# Altium integrated library Cypress PSoC 1.IntLib: 188 symbols (part 4 of 11)
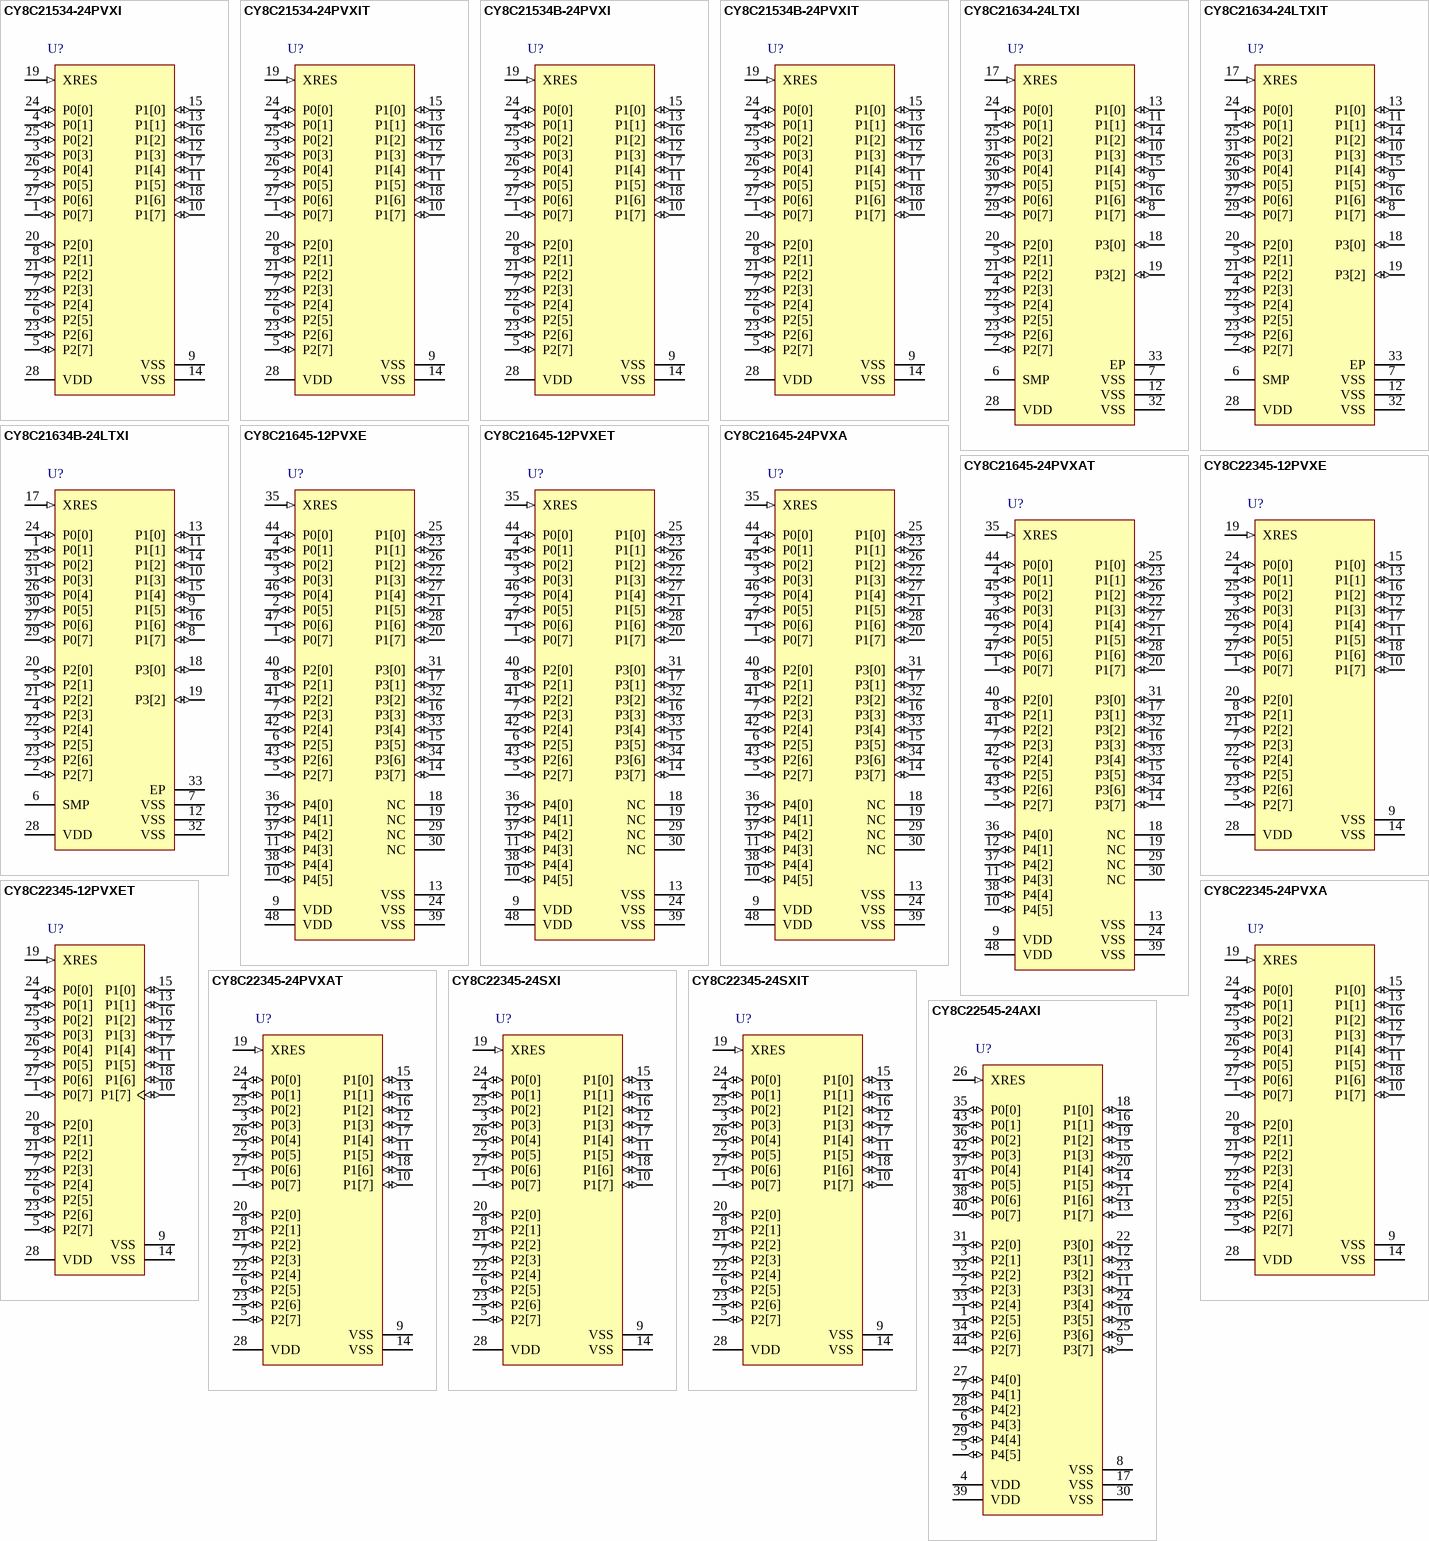
[diagram p14: symbols CY8C21534-24PVXI to CY8C22545-24AXI]

## CY8C21534B-24PVXI
designator U?
PSoC Programmable System-on-Chip, M8C, 20 CapSense IO, 2.4 to 5.25 V, 28-Pin SSOP (PVX28); Manufacturer: Cypress; PartNumber: CY8C21534B-24PVXI; Comm. Interface: I2C-SPI-UART; No. of CapSense IO: 20; Flash (KB): 8; Max. Operating Voltage (V): 5.25; Min. Operating Voltage (V): 2.4; No. of Programmable Digital Blocks: 3; Proximity Sensing: Y; PWMs: HW; Rating: I; Sliders: 2; DatasheetVersion: Rev. *D; PackageVersion: *C; PackageReference: PVX28; PackageDescription: 28-Pin SSOP, Body 10.2 x 5.3 mm, Pitch 0.65 mm; Supplier 1: Digi-Key; Supplier Part Number 1: CY8C21534B-24PVXI-ND; Supplier 2: Newark; Supplier Part Number 2: 58T0049; Supplier 3: Mouser; Supplier Part Number 3: 727-CY8C21534B24PVXI; CPU Core: M8C; Max. Operating Temp. (°C): 85; Min. Operating Temp. (°C): -40; No. of GPIOs: 20; RoHS: Pb-Free; SmartSense Enabled: Y; Mounting Technology: Surface Mount; ComponentLink1Description: Manufacturer URL; ComponentLink1URL: http://www.cypress.com/; ComponentLink2Description: Datasheet; ComponentLink2URL: http://www.cypress.com/?docID=48203; ComponentLink3Description: Package Specification; ComponentLink3URL: http://www.cypress.com/?docID=1371; ComponentLink4Description: Product URL; ComponentLink4URL: http://www.cypress.com/?rID=49125
footprint CYP-PVX28_N (SOP, 28-Leads, Body 10.2x5.3mm, Pitch 0.65mm, IPC Medium Density)
footprint CYP-PVX28_L (SOP, 28-Leads, Body 10.2x5.3mm, Pitch 0.65mm, IPC High Density)
footprint CYP-PVX28_M (SOP, 28-Leads, Body 10.2x5.3mm, Pitch 0.65mm, IPC Low Density)
pins: 1 P0[7] (io) "Analog column mux input", 2 P0[5] (io) "Analog column mux input and column output", 3 P0[3] (io) "Analog column mux input and column output, integrating input", 4 P0[1] (io) "Analog column mux input, integrating input", 5 P2[7] (io), 6 P2[5] (io), 7 P2[3] (io) "Direct switched capacitor block input", 8 P2[1] (io) "Direct switched capacitor block input", 9 VSS (power) "Ground connection", 10 P1[7] (io) "I2C SCL", 11 P1[5] (io) "I2C SDA", 12 P1[3] (io), 13 P1[1] (io) "I2C SCL, ISSP-SCLK", 14 VSS (power) "Ground connection", 15 P1[0] (io) "I2C SDA, ISSP-SDATA", 16 P1[2] (io), 17 P1[4] (io) "Optional external clock input (EXTCLK)", 18 P1[6] (io), 19 XRES (in) "Active high external reset with internal pull-down", 20 P2[0] (io) "Direct switched capacitor block input", 21 P2[2] (io) "Direct switched capacitor block input", 22 P2[4] (io), 23 P2[6] (io), 24 P0[0] (io) "Analog column mux input", 25 P0[2] (io) "Analog column mux input", 26 P0[4] (io) "Analog column mux input", 27 P0[6] (io) "Analog column mux input", 28 VDD (power) "Supply voltage"

## CY8C21534B-24PVXIT
designator U?
PSoC Programmable System-on-Chip, M8C, 20 CapSense IO, 2.4 to 5.25 V, 28-Pin SSOP (PVX28), Tape and Reel; Manufacturer: Cypress; PartNumber: CY8C21534B-24PVXIT; Comm. Interface: I2C-SPI-UART; No. of CapSense IO: 20; Flash (KB): 8; Max. Operating Voltage (V): 5.25; Min. Operating Voltage (V): 2.4; No. of Programmable Digital Blocks: 3; Proximity Sensing: Y; PWMs: HW; Rating: I; Sliders: 2; DatasheetVersion: Rev. *D; PackageVersion: *C; PackageReference: PVX28; PackageDescription: 28-Pin SSOP, Body 10.2 x 5.3 mm, Pitch 0.65 mm; Supplier 1: Newark; Supplier Part Number 1: 05W7570; Supplier 2: Mouser; Supplier Part Number 2: 727-8C21534B-24PVXIT; CPU Core: M8C; Max. Operating Temp. (°C): 85; Min. Operating Temp. (°C): -40; No. of GPIOs: 20; RoHS: Pb-Free; SmartSense Enabled: Y; Mounting Technology: Surface Mount; ComponentLink1Description: Manufacturer URL; ComponentLink1URL: http://www.cypress.com/; ComponentLink2Description: Datasheet; ComponentLink2URL: http://www.cypress.com/?docID=48203; ComponentLink3Description: Package Specification; ComponentLink3URL: http://www.cypress.com/?docID=1371; ComponentLink4Description: Product URL; ComponentLink4URL: http://www.cypress.com/?rID=49125
footprint CYP-PVX28_N (SOP, 28-Leads, Body 10.2x5.3mm, Pitch 0.65mm, IPC Medium Density)
footprint CYP-PVX28_L (SOP, 28-Leads, Body 10.2x5.3mm, Pitch 0.65mm, IPC High Density)
footprint CYP-PVX28_M (SOP, 28-Leads, Body 10.2x5.3mm, Pitch 0.65mm, IPC Low Density)
pins: 1 P0[7] (io) "Analog column mux input", 2 P0[5] (io) "Analog column mux input and column output", 3 P0[3] (io) "Analog column mux input and column output, integrating input", 4 P0[1] (io) "Analog column mux input, integrating input", 5 P2[7] (io), 6 P2[5] (io), 7 P2[3] (io) "Direct switched capacitor block input", 8 P2[1] (io) "Direct switched capacitor block input", 9 VSS (power) "Ground connection", 10 P1[7] (io) "I2C SCL", 11 P1[5] (io) "I2C SDA", 12 P1[3] (io), 13 P1[1] (io) "I2C SCL, ISSP-SCLK", 14 VSS (power) "Ground connection", 15 P1[0] (io) "I2C SDA, ISSP-SDATA", 16 P1[2] (io), 17 P1[4] (io) "Optional external clock input (EXTCLK)", 18 P1[6] (io), 19 XRES (in) "Active high external reset with internal pull-down", 20 P2[0] (io) "Direct switched capacitor block input", 21 P2[2] (io) "Direct switched capacitor block input", 22 P2[4] (io), 23 P2[6] (io), 24 P0[0] (io) "Analog column mux input", 25 P0[2] (io) "Analog column mux input", 26 P0[4] (io) "Analog column mux input", 27 P0[6] (io) "Analog column mux input", 28 VDD (power) "Supply voltage"

## CY8C21634-24LTXI
designator U?
PSoC Programmable System-on-Chip, 8 KB Flash, 26 GPIOs, 2.40 to 5.25 V, 32-Pin Sawn QFN (LT32B); Manufacturer: Cypress; PartNumber: CY8C21634-24LTXI; Comm. Interface: I2C-SPI-UART; CPU Core: M8C; No. of CapSense IO: 22; Flash (KB): 8; Max. Operating Voltage (V): 5.25; Min. Operating Voltage (V): 2.4; No. of GPIOs: 26; No. of Programmable Digital Blocks: 3; Proximity Sensing: Y; PWMs: HW; Rating: I; Sliders: 4; SmartSense Enabled: N; DatasheetVersion: Rev. *AD; PackageReference: LTX32; PackageDescription: 32-Pin Swan QFN, Body 5 x 5 mm, Pitch 0.5 mm; Supplier 1: Digi-Key; Supplier Part Number 1: 428-2884-ND; Supplier 2: Newark; Supplier Part Number 2: 07R8379; Supplier 3: Mouser; Supplier Part Number 3: 727-CY8C21634-24LTXI; Max. Operating Temp. (°C): 85; Min. Operating Temp. (°C): -40; RoHS: Pb-Free; Mounting Technology: Surface Mount; Code_JEDEC: MO-220; ComponentLink1Description: Manufacturer URL; ComponentLink1URL: http://www.cypress.com/; ComponentLink2Description: Datasheet; ComponentLink2URL: http://www.cypress.com/?docID=48828; ComponentLink3Description: Package Specification; ComponentLink3URL: http://www.cypress.com/?docID=39513; ComponentLink4Description: Product URL; ComponentLink4URL: http://www.cypress.com/?rID=3345
footprint CYP-LTX32_N (QFN, 32-Leads, Body 5x5mm, Pitch 0.5mm, Thermal Pad 3.5x3.5mm, IPC Medium Density)
footprint CYP-LTX32_L (QFN, 32-Leads, Body 5x5mm, Pitch 0.5mm, Thermal Pad 3.5x3.5mm, IPC High Density)
footprint CYP-LTX32_M (QFN, 32-Leads, Body 5x5mm, Pitch 0.5mm, Thermal Pad 3.5x3.5mm, IPC Low Density)
pins: 1 P0[1] (io) "Analog column mux input, integrating input", 2 P2[7] (io), 3 P2[5] (io), 4 P2[3] (io), 5 P2[1] (io), 6 SMP (power) "SMP connection to required external components in CY8C21634 part", 7 VSS (power) "Ground connection in CY8C21634 part", 8 P1[7] (io) "I2C SCL", 9 P1[5] (io) "I2C SDA", 10 P1[3] (io), 11 P1[1] (io) "I2C SCL, ISSP-SCLK[7]", 12 VSS (power) "Ground connection", 13 P1[0] (io) "I2C SDA, ISSP-SDATA[7]", 14 P1[2] (io), 15 P1[4] (io) "Optional external clock input (EXTCLK)", 16 P1[6] (io), 17 XRES (in) "Active high external reset with internal pull-down", 18 P3[0] (io), 19 P3[2] (io), 20 P2[0] (io), 21 P2[2] (io), 22 P2[4] (io), 23 P2[6] (io), 24 P0[0] (io) "Analog column mux input", 25 P0[2] (io) "Analog column mux input", 26 P0[4] (io) "Analog column mux input", 27 P0[6] (io) "Analog column mux input", 28 VDD (power) "Supply voltage", 29 P0[7] (io) "Analog column mux input", 30 P0[5] (io) "Analog column mux input", 31 P0[3] (io) "Analog column mux input, integrating input", 32 VSS (power) "Ground connection", 33 EP (power) "solderable exposed pad"

## CY8C21634-24LTXIT
designator U?
PSoC Programmable System-on-Chip, 8 KB Flash, 26 GPIOs, 2.40 to 5.50 V, 32-Pin Sawn QFN (LT32B), Tape and Reel; Manufacturer: Cypress; PartNumber: CY8C21634-24LTXIT; Comm. Interface: I2C-SPI-UART; CPU Core: M8C; No. of CapSense IO: 22; Flash (KB): 8; Max. Operating Voltage (V): 5.5; Min. Operating Voltage (V): 2.4; No. of GPIOs: 26; No. of Programmable Digital Blocks: 3; Proximity Sensing: Y; PWMs: HW; Rating: I; Sliders: 4; SmartSense Enabled: N; DatasheetVersion: Rev. *AD; PackageReference: LTX32; PackageDescription: 32-Pin Swan QFN, Body 5 x 5 mm, Pitch 0.5 mm; Supplier 1: Digi-Key; Supplier Part Number 1: CY8C21634-24LTXIT-ND; Supplier 2: Mouser; Supplier Part Number 2: 727-CY8C2163424LTXIT; Max. Operating Temp. (°C): 85; Min. Operating Temp. (°C): -40; Packing: Tape and Reel; RoHS: Pb-Free; Mounting Technology: Surface Mount; Code_JEDEC: MO-220; ComponentLink1Description: Manufacturer URL; ComponentLink1URL: http://www.cypress.com/; ComponentLink2Description: Datasheet; ComponentLink2URL: http://www.cypress.com/?docID=48828; ComponentLink3Description: Package Specification; ComponentLink3URL: http://www.cypress.com/?docID=39513; ComponentLink4Description: Product URL; ComponentLink4URL: http://www.cypress.com/?rID=3345
footprint CYP-LTX32_N (QFN, 32-Leads, Body 5x5mm, Pitch 0.5mm, Thermal Pad 3.5x3.5mm, IPC Medium Density)
footprint CYP-LTX32_L (QFN, 32-Leads, Body 5x5mm, Pitch 0.5mm, Thermal Pad 3.5x3.5mm, IPC High Density)
footprint CYP-LTX32_M (QFN, 32-Leads, Body 5x5mm, Pitch 0.5mm, Thermal Pad 3.5x3.5mm, IPC Low Density)
pins: 1 P0[1] (io) "Analog column mux input, integrating input", 2 P2[7] (io), 3 P2[5] (io), 4 P2[3] (io), 5 P2[1] (io), 6 SMP (power) "SMP connection to required external components in CY8C21634 part", 7 VSS (power) "Ground connection in CY8C21634 part", 8 P1[7] (io) "I2C SCL", 9 P1[5] (io) "I2C SDA", 10 P1[3] (io), 11 P1[1] (io) "I2C SCL, ISSP-SCLK[7]", 12 VSS (power) "Ground connection", 13 P1[0] (io) "I2C SDA, ISSP-SDATA[7]", 14 P1[2] (io), 15 P1[4] (io) "Optional external clock input (EXTCLK)", 16 P1[6] (io), 17 XRES (in) "Active high external reset with internal pull-down", 18 P3[0] (io), 19 P3[2] (io), 20 P2[0] (io), 21 P2[2] (io), 22 P2[4] (io), 23 P2[6] (io), 24 P0[0] (io) "Analog column mux input", 25 P0[2] (io) "Analog column mux input", 26 P0[4] (io) "Analog column mux input", 27 P0[6] (io) "Analog column mux input", 28 VDD (power) "Supply voltage", 29 P0[7] (io) "Analog column mux input", 30 P0[5] (io) "Analog column mux input", 31 P0[3] (io) "Analog column mux input, integrating input", 32 VSS (power) "Ground connection", 33 EP (power) "solderable exposed pad"

## CY8C21634B-24LTXI
designator U?
PSoC Programmable System-on-Chip, M8C, 22 CapSense IO, 2.4 to 5.25 V, 32-Pin QFN (LTX32); Manufacturer: Cypress; PartNumber: CY8C21634B-24LTXI; Comm. Interface: I2C-SPI-UART; No. of CapSense IO: 22; Flash (KB): 8; Max. Operating Voltage (V): 5.25; Min. Operating Voltage (V): 2.4; No. of GPIOs: 26; No. of Programmable Digital Blocks: 3; Packing: Tray; Proximity Sensing: Y; PWMs: HW; Rating: I; Sliders: 2; DatasheetVersion: Rev. *D; PackageReference: LTX32; PackageDescription: 32-Pin Swan QFN, Body 5 x 5 mm, Pitch 0.5 mm; Supplier 1: Digi-Key; Supplier Part Number 1: CY8C21634B-24LTXI-ND; Supplier 2: Mouser; Supplier Part Number 2: 727-CY8C21634B24LTXI; CPU Core: M8C; Max. Operating Temp. (°C): 85; Min. Operating Temp. (°C): -40; RoHS: Pb-Free; SmartSense Enabled: Y; Mounting Technology: Surface Mount; Code_JEDEC: MO-220; ComponentLink1Description: Manufacturer URL; ComponentLink1URL: http://www.cypress.com/; ComponentLink2Description: Datasheet; ComponentLink2URL: http://www.cypress.com/?docID=48203; ComponentLink3Description: Package Specification; ComponentLink3URL: http://www.cypress.com/?docID=39513; ComponentLink4Description: Product URL; ComponentLink4URL: http://www.cypress.com/?rID=49125
footprint CYP-LTX32_N (QFN, 32-Leads, Body 5x5mm, Pitch 0.5mm, Thermal Pad 3.5x3.5mm, IPC Medium Density)
footprint CYP-LTX32_L (QFN, 32-Leads, Body 5x5mm, Pitch 0.5mm, Thermal Pad 3.5x3.5mm, IPC High Density)
footprint CYP-LTX32_M (QFN, 32-Leads, Body 5x5mm, Pitch 0.5mm, Thermal Pad 3.5x3.5mm, IPC Low Density)
pins: 1 P0[1] (io) "Analog column mux input, integrating input", 2 P2[7] (io), 3 P2[5] (io), 4 P2[3] (io), 5 P2[1] (io), 6 SMP (power) "SMP connection to required external components in CY8C21634 part", 7 VSS (power) "Ground connection in CY8C21634 part", 8 P1[7] (io) "I2C SCL", 9 P1[5] (io) "I2C SDA", 10 P1[3] (io), 11 P1[1] (io) "I2C SCL, ISSP-SCLK[7]", 12 VSS (power) "Ground connection", 13 P1[0] (io) "I2C SDA, ISSP-SDATA[7]", 14 P1[2] (io), 15 P1[4] (io) "Optional external clock input (EXTCLK)", 16 P1[6] (io), 17 XRES (in) "Active high external reset with internal pull-down", 18 P3[0] (io), 19 P3[2] (io), 20 P2[0] (io), 21 P2[2] (io), 22 P2[4] (io), 23 P2[6] (io), 24 P0[0] (io) "Analog column mux input", 25 P0[2] (io) "Analog column mux input", 26 P0[4] (io) "Analog column mux input", 27 P0[6] (io) "Analog column mux input", 28 VDD (power) "Supply voltage", 29 P0[7] (io) "Analog column mux input", 30 P0[5] (io) "Analog column mux input", 31 P0[3] (io) "Analog column mux input, integrating input", 32 VSS (power) "Ground connection", 33 EP (power) "solderable exposed pad"

## CY8C21645-12PVXE
designator U?
Automotive PSoC Programmable System-on-Chip, 8 KB Flash, 39 GPIOs, 4.75 to 5.25 V, 48-Pin SSOP (O483); Manufacturer: Cypress; PartNumber: CY8C21645-12PVXE; CPU Core: M8C; No. of CapSense IO: 36; Flash (KB): 8; Max. Operating Voltage (V): 5.25; Min. Operating Voltage (V): 4.75; No. of GPIOs: 39; No. of Programmable Digital Blocks: 4; Rating: E; DatasheetVersion: Rev. *K; PackageVersion: *D; PackageReference: PVX48; PackageDescription: 48-Pin Shrunk Small Outline Package, Body 15.88 x 7.51 mm, Pitch 0.64 mm; Supplier 1: Digi-Key; Supplier Part Number 1: CY8C21645-12PVXE-ND; Supplier 2: Mouser; Supplier Part Number 2: 727-CY8C21645-12PVXE; Max. Operating Temp. (°C): 125; Min. Operating Temp. (°C): -40; RoHS: Pb-Free; Mounting Technology: Surface Mount; ComponentLink1Description: Manufacturer URL; ComponentLink1URL: http://www.cypress.com/; ComponentLink2Description: Datasheet; ComponentLink2URL: http://www.cypress.com/?docID=40421; ComponentLink3Description: Package Specification; ComponentLink3URL: http://www.cypress.com/?docID=39235; ComponentLink4Description: Product URL; ComponentLink4URL: http://www.cypress.com/?rID=42798
footprint CYP-PVX48_N (SOP, 48-Leads, Body 15.88x7.51mm, Pitch 0.635mm, IPC Medium Density)
footprint CYP-PVX48_L (SOP, 48-Leads, Body 15.88x7.51mm, Pitch 0.635mm, IPC High Density)
footprint CYP-PVX48_M (SOP, 48-Leads, Body 15.88x7.51mm, Pitch 0.635mm, IPC Low Density)
pins: 1 P0[7] (io) "Analog column mux input, CMOD  capacitor pin", 2 P0[5] (io) "Analog column mux input, CMOD  capacitor pin", 3 P0[3] (io) "Analog column mux input", 4 P0[1] (io) "Analog column mux input", 5 P2[7] (io) "Direct input to analog block", 6 P2[5] (io) "Optional SAR ADC external reference", 7 P2[3] (io), 8 P2[1] (io), 9 VDD (power) "Supply voltage", 10 P4[5] (io), 11 P4[3] (io), 12 P4[1] (io), 13 VSS (power) "Ground connection", 14 P3[7] (io), 15 P3[5] (io), 16 P3[3] (io), 17 P3[1] (io), 18 NC "Not connected", 19 NC "Not connected", 20 P1[7] (io) "I2C serial clock", 21 P1[5] (io) "I2C serial data", 22 P1[3] (io), 23 P1[1] (io) "Crystal input (XTALin), I2C SCL,ISSP-SCLK", 24 VSS (power), 25 P1[0] (io) "Crystal output (XTALout), I2C SDA,  ISSP-SDATA", 26 P1[2] (io), 27 P1[4] (io) "Optional external clock input", 28 P1[6] (io), 29 NC "Not connected", 30 NC "Not connected", 31 P3[0] (io), 32 P3[2] (io), 33 P3[4] (io), 34 P3[6] (io), 35 XRES (in) "Active high external reset with internal  pull-down", 36 P4[0] (io), 37 P4[2] (io), 38 P4[4] (io), 39 VSS (power) "Ground connection", 40 P2[0] (io), 41 P2[2] (io), 42 P2[4] (io), 43 P2[6] (io) "Direct input to analog block", 44 P0[0] (io) "Analog column mux input", 45 P0[2] (io) "Analog column mux input", 46 P0[4] (io) "Analog column mux input", 47 P0[6] (io) "Analog column mux input", 48 VDD (power) "Supply voltage"

## CY8C21645-12PVXET
designator U?
Automotive PSoC Programmable System-on-Chip, 8 KB Flash, 39 GPIOs, 4.75 to 5.25 V, 48-Pin SSOP (O483), Tape and Reel; Manufacturer: Cypress; PartNumber: CY8C21645-12PVXET; CPU Core: M8C; No. of CapSense IO: 36; Flash (KB): 8; Max. Operating Voltage (V): 5.25; Min. Operating Voltage (V): 4.75; No. of GPIOs: 39; No. of Programmable Digital Blocks: 4; Rating: E; DatasheetVersion: Rev. *K; PackageVersion: *D; PackageReference: PVX48; PackageDescription: 48-Pin Shrunk Small Outline Package, Body 15.88 x 7.51 mm, Pitch 0.64 mm; Supplier 1: Digi-Key; Supplier Part Number 1: CY8C21645-12PVXET-ND; Supplier 2: Mouser; Supplier Part Number 2: 727-CY8C2164512PVXET; Max. Operating Temp. (°C): 125; Min. Operating Temp. (°C): -40; Packing: Tape and Reel; RoHS: Pb-Free; Mounting Technology: Surface Mount; ComponentLink1Description: Manufacturer URL; ComponentLink1URL: http://www.cypress.com/; ComponentLink2Description: Datasheet; ComponentLink2URL: http://www.cypress.com/?docID=40421; ComponentLink3Description: Package Specification; ComponentLink3URL: http://www.cypress.com/?docID=39235; ComponentLink4Description: Product URL; ComponentLink4URL: http://www.cypress.com/?rID=42798
footprint CYP-PVX48_N (SOP, 48-Leads, Body 15.88x7.51mm, Pitch 0.635mm, IPC Medium Density)
footprint CYP-PVX48_L (SOP, 48-Leads, Body 15.88x7.51mm, Pitch 0.635mm, IPC High Density)
footprint CYP-PVX48_M (SOP, 48-Leads, Body 15.88x7.51mm, Pitch 0.635mm, IPC Low Density)
pins: 1 P0[7] (io) "Analog column mux input, CMOD  capacitor pin", 2 P0[5] (io) "Analog column mux input, CMOD  capacitor pin", 3 P0[3] (io) "Analog column mux input", 4 P0[1] (io) "Analog column mux input", 5 P2[7] (io) "Direct input to analog block", 6 P2[5] (io) "Optional SAR ADC external reference", 7 P2[3] (io), 8 P2[1] (io), 9 VDD (power) "Supply voltage", 10 P4[5] (io), 11 P4[3] (io), 12 P4[1] (io), 13 VSS (power) "Ground connection", 14 P3[7] (io), 15 P3[5] (io), 16 P3[3] (io), 17 P3[1] (io), 18 NC "Not connected", 19 NC "Not connected", 20 P1[7] (io) "I2C serial clock", 21 P1[5] (io) "I2C serial data", 22 P1[3] (io), 23 P1[1] (io) "Crystal input (XTALin), I2C SCL,ISSP-SCLK", 24 VSS (power), 25 P1[0] (io) "Crystal output (XTALout), I2C SDA,  ISSP-SDATA", 26 P1[2] (io), 27 P1[4] (io) "Optional external clock input", 28 P1[6] (io), 29 NC "Not connected", 30 NC "Not connected", 31 P3[0] (io), 32 P3[2] (io), 33 P3[4] (io), 34 P3[6] (io), 35 XRES (in) "Active high external reset with internal  pull-down", 36 P4[0] (io), 37 P4[2] (io), 38 P4[4] (io), 39 VSS (power) "Ground connection", 40 P2[0] (io), 41 P2[2] (io), 42 P2[4] (io), 43 P2[6] (io) "Direct input to analog block", 44 P0[0] (io) "Analog column mux input", 45 P0[2] (io) "Analog column mux input", 46 P0[4] (io) "Analog column mux input", 47 P0[6] (io) "Analog column mux input", 48 VDD (power) "Supply voltage"

## CY8C21645-24PVXA
designator U?
Automotive PSoC Programmable System-on-Chip, 8 KB Flash, 39 GPIOs, 3.00 to 5.25 V, 48-Pin SSOP (O483); Manufacturer: Cypress; PartNumber: CY8C21645-24PVXA; CPU Core: M8C; No. of CapSense IO: 36; Flash (KB): 8; Max. Operating Voltage (V): 5.25; Min. Operating Voltage (V): 3; No. of GPIOs: 39; No. of Programmable Digital Blocks: 4; Rating: A; DatasheetVersion: Rev. *K; PackageVersion: *D; PackageReference: PVX48; PackageDescription: 48-Pin Shrunk Small Outline Package, Body 15.88 x 7.51 mm, Pitch 0.64 mm; Supplier 1: Digi-Key; Supplier Part Number 1: CY8C21645-24PVXA-ND; Supplier 2: Mouser; Supplier Part Number 2: 727-CY8C21645-24PVXA; Max. Operating Temp. (°C): 85; Min. Operating Temp. (°C): -40; RoHS: Pb-Free; Mounting Technology: Surface Mount; ComponentLink1Description: Manufacturer URL; ComponentLink1URL: http://www.cypress.com/; ComponentLink2Description: Datasheet; ComponentLink2URL: http://www.cypress.com/?docID=40421; ComponentLink3Description: Package Specification; ComponentLink3URL: http://www.cypress.com/?docID=39235; ComponentLink4Description: Product URL; ComponentLink4URL: http://www.cypress.com/?rID=42798
footprint CYP-PVX48_N (SOP, 48-Leads, Body 15.88x7.51mm, Pitch 0.635mm, IPC Medium Density)
footprint CYP-PVX48_L (SOP, 48-Leads, Body 15.88x7.51mm, Pitch 0.635mm, IPC High Density)
footprint CYP-PVX48_M (SOP, 48-Leads, Body 15.88x7.51mm, Pitch 0.635mm, IPC Low Density)
pins: 1 P0[7] (io) "Analog column mux input, CMOD  capacitor pin", 2 P0[5] (io) "Analog column mux input, CMOD  capacitor pin", 3 P0[3] (io) "Analog column mux input", 4 P0[1] (io) "Analog column mux input", 5 P2[7] (io) "Direct input to analog block", 6 P2[5] (io) "Optional SAR ADC external reference", 7 P2[3] (io), 8 P2[1] (io), 9 VDD (power) "Supply voltage", 10 P4[5] (io), 11 P4[3] (io), 12 P4[1] (io), 13 VSS (power) "Ground connection", 14 P3[7] (io), 15 P3[5] (io), 16 P3[3] (io), 17 P3[1] (io), 18 NC "Not connected", 19 NC "Not connected", 20 P1[7] (io) "I2C serial clock", 21 P1[5] (io) "I2C serial data", 22 P1[3] (io), 23 P1[1] (io) "Crystal input (XTALin), I2C SCL,ISSP-SCLK", 24 VSS (power), 25 P1[0] (io) "Crystal output (XTALout), I2C SDA,  ISSP-SDATA", 26 P1[2] (io), 27 P1[4] (io) "Optional external clock input", 28 P1[6] (io), 29 NC "Not connected", 30 NC "Not connected", 31 P3[0] (io), 32 P3[2] (io), 33 P3[4] (io), 34 P3[6] (io), 35 XRES (in) "Active high external reset with internal  pull-down", 36 P4[0] (io), 37 P4[2] (io), 38 P4[4] (io), 39 VSS (power) "Ground connection", 40 P2[0] (io), 41 P2[2] (io), 42 P2[4] (io), 43 P2[6] (io) "Direct input to analog block", 44 P0[0] (io) "Analog column mux input", 45 P0[2] (io) "Analog column mux input", 46 P0[4] (io) "Analog column mux input", 47 P0[6] (io) "Analog column mux input", 48 VDD (power) "Supply voltage"

## CY8C21645-24PVXAT
designator U?
Automotive PSoC Programmable System-on-Chip, 8 KB Flash, 39 GPIOs, 3.00 to 5.25 V, 48-Pin SSOP (O483), Tape and Reel; Manufacturer: Cypress; PartNumber: CY8C21645-24PVXAT; CPU Core: M8C; No. of CapSense IO: 36; Flash (KB): 8; Max. Operating Voltage (V): 5.25; Min. Operating Voltage (V): 3; No. of GPIOs: 39; No. of Programmable Digital Blocks: 4; Rating: A; DatasheetVersion: Rev. *K; PackageVersion: *D; PackageReference: PVX48; PackageDescription: 48-Pin Shrunk Small Outline Package, Body 15.88 x 7.51 mm, Pitch 0.64 mm; Supplier 1: Digi-Key; Supplier Part Number 1: CY8C21645-24PVXAT-ND; Supplier 2: Mouser; Supplier Part Number 2: 727-CY8C2164524PVXAT; Max. Operating Temp. (°C): 85; Min. Operating Temp. (°C): -40; Packing: Tape and Reel; RoHS: Pb-Free; Mounting Technology: Surface Mount; ComponentLink1Description: Manufacturer URL; ComponentLink1URL: http://www.cypress.com/; ComponentLink2Description: Datasheet; ComponentLink2URL: http://www.cypress.com/?docID=40421; ComponentLink3Description: Package Specification; ComponentLink3URL: http://www.cypress.com/?docID=39235; ComponentLink4Description: Product URL; ComponentLink4URL: http://www.cypress.com/?rID=42798
footprint CYP-PVX48_N (SOP, 48-Leads, Body 15.88x7.51mm, Pitch 0.635mm, IPC Medium Density)
footprint CYP-PVX48_L (SOP, 48-Leads, Body 15.88x7.51mm, Pitch 0.635mm, IPC High Density)
footprint CYP-PVX48_M (SOP, 48-Leads, Body 15.88x7.51mm, Pitch 0.635mm, IPC Low Density)
pins: 1 P0[7] (io) "Analog column mux input, CMOD  capacitor pin", 2 P0[5] (io) "Analog column mux input, CMOD  capacitor pin", 3 P0[3] (io) "Analog column mux input", 4 P0[1] (io) "Analog column mux input", 5 P2[7] (io) "Direct input to analog block", 6 P2[5] (io) "Optional SAR ADC external reference", 7 P2[3] (io), 8 P2[1] (io), 9 VDD (power) "Supply voltage", 10 P4[5] (io), 11 P4[3] (io), 12 P4[1] (io), 13 VSS (power) "Ground connection", 14 P3[7] (io), 15 P3[5] (io), 16 P3[3] (io), 17 P3[1] (io), 18 NC "Not connected", 19 NC "Not connected", 20 P1[7] (io) "I2C serial clock", 21 P1[5] (io) "I2C serial data", 22 P1[3] (io), 23 P1[1] (io) "Crystal input (XTALin), I2C SCL,ISSP-SCLK", 24 VSS (power), 25 P1[0] (io) "Crystal output (XTALout), I2C SDA,  ISSP-SDATA", 26 P1[2] (io), 27 P1[4] (io) "Optional external clock input", 28 P1[6] (io), 29 NC "Not connected", 30 NC "Not connected", 31 P3[0] (io), 32 P3[2] (io), 33 P3[4] (io), 34 P3[6] (io), 35 XRES (in) "Active high external reset with internal  pull-down", 36 P4[0] (io), 37 P4[2] (io), 38 P4[4] (io), 39 VSS (power) "Ground connection", 40 P2[0] (io), 41 P2[2] (io), 42 P2[4] (io), 43 P2[6] (io) "Direct input to analog block", 44 P0[0] (io) "Analog column mux input", 45 P0[2] (io) "Analog column mux input", 46 P0[4] (io) "Analog column mux input", 47 P0[6] (io) "Analog column mux input", 48 VDD (power) "Supply voltage"

## CY8C22345-12PVXE
designator U?
Automotive PSoC Programmable System-on-Chip, 16 KB Flash, 24 GPIOs, 4.75 to 5.25 V, 28-Pin SSOP (O28.21); Manufacturer: Cypress; PartNumber: CY8C22345-12PVXE; CPU Core: M8C; No. of CapSense IO: 21; Flash (KB): 16; Max. Operating Voltage (V): 5.25; Min. Operating Voltage (V): 4.75; No. of GPIOs: 24; No. of Programmable Digital Blocks: 8; Rating: E; SRAM (KB): 1; DatasheetVersion: Rev. *K; PackageVersion: *C; PackageReference: PVX28; PackageDescription: 28-Pin SSOP, Body 10.2 x 5.3 mm, Pitch 0.65 mm; Supplier 1: Digi-Key; Supplier Part Number 1: CY8C22345-12PVXE-ND; Supplier 2: Mouser; Supplier Part Number 2: 727-CY8C22345-12PVXE; Max. Operating Temp. (°C): 125; Min. Operating Temp. (°C): -40; RoHS: Pb-Free; Mounting Technology: Surface Mount; ComponentLink1Description: Manufacturer URL; ComponentLink1URL: http://www.cypress.com/; ComponentLink2Description: Datasheet; ComponentLink2URL: http://www.cypress.com/?docID=40421; ComponentLink3Description: Package Specification; ComponentLink3URL: http://www.cypress.com/?docID=1371; ComponentLink4Description: Product URL; ComponentLink4URL: http://www.cypress.com/?rID=42798
footprint CYP-PVX28_N (SOP, 28-Leads, Body 10.2x5.3mm, Pitch 0.65mm, IPC Medium Density)
footprint CYP-PVX28_L (SOP, 28-Leads, Body 10.2x5.3mm, Pitch 0.65mm, IPC High Density)
footprint CYP-PVX28_M (SOP, 28-Leads, Body 10.2x5.3mm, Pitch 0.65mm, IPC Low Density)
pins: 1 P0[7] (io) "Analog column mux input, CMOD capacitor pin", 2 P0[5] (io) "Analog column mux input, CMOD capacitor pin", 3 P0[3] (io) "Analog column mux input", 4 P0[1] (io) "Analog column mux input", 5 P2[7] (io) "Direct input to analog block", 6 P2[5] (io) "Optional SAR ADC external reference(EXTREF)", 7 P2[3] (io), 8 P2[1] (io), 9 VSS (power) "Ground connection", 10 P1[7] (io) "I2C serial clock (SCL)", 11 P1[5] (io) "I2C serial data (SDA)", 12 P1[3] (io), 13 P1[1] (io) "Crystal input (XTALin), I2C SCL,ISSP-SCLK", 14 VSS (power) "Ground connection", 15 P1[0] (io) "Crystal output (XTALout), I2C SDA,ISSP-SDATA", 16 P1[2] (io), 17 P1[4] (io) "Optional external clock input (EXTCLK)", 18 P1[6] (io), 19 XRES (in) "Active high external reset with internal pull-down", 20 P2[0] (io), 21 P2[2] (io), 22 P2[4] (io), 23 P2[6] (io) "Direct input to analog block", 24 P0[0] (io) "Analog column mux input", 25 P0[2] (io) "Analog column mux input", 26 P0[4] (io) "Analog column mux input", 27 P0[6] (io) "Analog column mux input", 28 VDD (power) "Supply voltage"

## CY8C22345-12PVXET
designator U?
Automotive PSoC Programmable System-on-Chip, 16 KB Flash, 24 GPIOs, 4.75 to 5.25 V, 28-Pin SSOP (O28), Tape and Reel; Manufacturer: Cypress; PartNumber: CY8C22345-12PVXET; No. of CapSense IO: 21; Flash (KB): 16; Max. Operating Voltage (V): 5.25; Min. Operating Voltage (V): 4.75; No. of Programmable Digital Blocks: 8; DatasheetVersion: Rev. *K; PackageVersion: *C; PackageReference: PVX28; PackageDescription: 28-Pin SSOP, Body 10.2 x 5.3 mm, Pitch 0.65 mm; Supplier 1: Digi-Key; Supplier Part Number 1: CY8C22345-12PVXET-ND; Supplier 2: Mouser; Supplier Part Number 2: 727-CY8C2234512PVXET; Mounting Technology: Surface Mount; ComponentLink1Description: Manufacturer URL; ComponentLink1URL: http://www.cypress.com/; ComponentLink2Description: Datasheet; ComponentLink2URL: http://www.cypress.com/?docID=40421; ComponentLink3Description: Package Specification; ComponentLink3URL: http://www.cypress.com/?docID=1371; ComponentLink4Description: Product URL; ComponentLink4URL: http://www.cypress.com/?rID=42798
footprint CYP-PVX28_N (SOP, 28-Leads, Body 10.2x5.3mm, Pitch 0.65mm, IPC Medium Density)
footprint CYP-PVX28_L (SOP, 28-Leads, Body 10.2x5.3mm, Pitch 0.65mm, IPC High Density)
footprint CYP-PVX28_M (SOP, 28-Leads, Body 10.2x5.3mm, Pitch 0.65mm, IPC Low Density)
pins: 1 P0[7] (io) "Analog column mux input, CMOD capacitor pin.", 2 P0[5] (io) "Analog column mux input, CMOD capacitor pin.", 3 P0[3] (io) "Analog column mux input", 4 P0[1] (io) "Analog column mux input", 5 P2[7] (io) "Direct input to analog block", 6 P2[5] (io) "Optional SAR ADC external reference(EXTREF)", 7 P2[3] (io), 8 P2[1] (io), 9 VSS (power) "Ground connection", 10 P1[7] (io) "I2C serial clock (SCL)", 11 P1[5] (io) "I2C serial data (SDA)", 12 P1[3] (io), 13 P1[1] (io) "Crystal input (XTALin), I2C SCL,ISSP-SCLK", 14 VSS (power) "Ground connection", 15 P1[0] (io) "Crystal output (XTALout), I2C SDA,ISSP-SDATA", 16 P1[2] (io), 17 P1[4] (io) "Optional external clock input (EXTCLK)", 18 P1[6] (io), 19 XRES (in) "Active high external reset with internal pull-down", 20 P2[0] (io), 21 P2[2] (io), 22 P2[4] (io), 23 P2[6] (io) "Direct input to analog block", 24 P0[0] (io) "Analog column mux input", 25 P0[2] (io) "Analog column mux input", 26 P0[4] (io) "Analog column mux input", 27 P0[6] (io) "Analog column mux input", 28 VDD (power) "Supply voltage"

## CY8C22345-24PVXA
designator U?
Automotive PSoC Programmable System-on-Chip, 16 KB Flash, 24 GPIOs, 3.00 to 5.25 V, 28-Pin SSOP (O28.21); Manufacturer: Cypress; PartNumber: CY8C22345-24PVXA; CPU Core: M8C; No. of CapSense IO: 21; Flash (KB): 16; Max. Operating Voltage (V): 5.25; Min. Operating Voltage (V): 3; No. of GPIOs: 24; No. of Programmable Digital Blocks: 8; Rating: A; SRAM (KB): 1; DatasheetVersion: Rev. *K; PackageVersion: *C; PackageReference: PVX28; PackageDescription: 28-Pin SSOP, Body 10.2 x 5.3 mm, Pitch 0.65 mm; Supplier 1: Digi-Key; Supplier Part Number 1: CY8C22345-24PVXA-ND; Supplier 2: Mouser; Supplier Part Number 2: 727-8C2234524PVXA; Max. Operating Temp. (°C): 85; Min. Operating Temp. (°C): -40; RoHS: Pb-Free; Mounting Technology: Surface Mount; ComponentLink1Description: Manufacturer URL; ComponentLink1URL: http://www.cypress.com/; ComponentLink2Description: Datasheet; ComponentLink2URL: http://www.cypress.com/?docID=40421; ComponentLink3Description: Package Specification; ComponentLink3URL: http://www.cypress.com/?docID=1371; ComponentLink4Description: Product URL; ComponentLink4URL: http://www.cypress.com/?rID=42798
footprint CYP-PVX28_N (SOP, 28-Leads, Body 10.2x5.3mm, Pitch 0.65mm, IPC Medium Density)
footprint CYP-PVX28_L (SOP, 28-Leads, Body 10.2x5.3mm, Pitch 0.65mm, IPC High Density)
footprint CYP-PVX28_M (SOP, 28-Leads, Body 10.2x5.3mm, Pitch 0.65mm, IPC Low Density)
pins: 1 P0[7] (io) "Analog column mux input, CMOD capacitor pin", 2 P0[5] (io) "Analog column mux input, CMOD capacitor pin", 3 P0[3] (io) "Analog column mux input", 4 P0[1] (io) "Analog column mux input", 5 P2[7] (io) "Direct input to analog block", 6 P2[5] (io) "Optional SAR ADC external reference(EXTREF)", 7 P2[3] (io), 8 P2[1] (io), 9 VSS (power) "Ground connection", 10 P1[7] (io) "I2C serial clock (SCL)", 11 P1[5] (io) "I2C serial data (SDA)", 12 P1[3] (io), 13 P1[1] (io) "Crystal input (XTALin), I2C SCL,ISSP-SCLK", 14 VSS (power) "Ground connection", 15 P1[0] (io) "Crystal output (XTALout), I2C SDA,ISSP-SDATA", 16 P1[2] (io), 17 P1[4] (io) "Optional external clock input (EXTCLK)", 18 P1[6] (io), 19 XRES (in) "Active high external reset with internal pull-down", 20 P2[0] (io), 21 P2[2] (io), 22 P2[4] (io), 23 P2[6] (io) "Direct input to analog block", 24 P0[0] (io) "Analog column mux input", 25 P0[2] (io) "Analog column mux input", 26 P0[4] (io) "Analog column mux input", 27 P0[6] (io) "Analog column mux input", 28 VDD (power) "Supply voltage"

## CY8C22345-24PVXAT
designator U?
Automotive PSoC Programmable System-on-Chip, 16 KB Flash, 24 GPIOs, 3.00 to 5.25 V, 28-Pin SSOP (O28.21), Tape and Reel; Manufacturer: Cypress; PartNumber: CY8C22345-24PVXAT; CPU Core: M8C; No. of CapSense IO: 21; Flash (KB): 16; Max. Operating Voltage (V): 5.25; Min. Operating Voltage (V): 3; No. of GPIOs: 24; No. of Programmable Digital Blocks: 8; Rating: A; SRAM (KB): 1; DatasheetVersion: Rev. *K; PackageVersion: *C; PackageReference: PVX28; PackageDescription: 28-Pin SSOP, Body 10.2 x 5.3 mm, Pitch 0.65 mm; Supplier 1: Digi-Key; Supplier Part Number 1: CY8C22345-24PVXAT-ND; Supplier 2: Mouser; Supplier Part Number 2: 727-8C2234524PVXAT; Max. Operating Temp. (°C): 85; Min. Operating Temp. (°C): -40; Packing: Tape and Reel; RoHS: Pb-Free; Mounting Technology: Surface Mount; ComponentLink1Description: Manufacturer URL; ComponentLink1URL: http://www.cypress.com/; ComponentLink2Description: Datasheet; ComponentLink2URL: http://www.cypress.com/?docID=40421; ComponentLink3Description: Package Specification; ComponentLink3URL: http://www.cypress.com/?docID=1371; ComponentLink4Description: Product URL; ComponentLink4URL: http://www.cypress.com/?rID=42798
footprint CYP-PVX28_N (SOP, 28-Leads, Body 10.2x5.3mm, Pitch 0.65mm, IPC Medium Density)
footprint CYP-PVX28_L (SOP, 28-Leads, Body 10.2x5.3mm, Pitch 0.65mm, IPC High Density)
footprint CYP-PVX28_M (SOP, 28-Leads, Body 10.2x5.3mm, Pitch 0.65mm, IPC Low Density)
pins: 1 P0[7] (io) "Analog column mux input, CMOD capacitor pin", 2 P0[5] (io) "Analog column mux input, CMOD capacitor pin", 3 P0[3] (io) "Analog column mux input", 4 P0[1] (io) "Analog column mux input", 5 P2[7] (io) "Direct input to analog block", 6 P2[5] (io) "Optional SAR ADC external reference(EXTREF)", 7 P2[3] (io), 8 P2[1] (io), 9 VSS (power) "Ground connection", 10 P1[7] (io) "I2C serial clock (SCL)", 11 P1[5] (io) "I2C serial data (SDA)", 12 P1[3] (io), 13 P1[1] (io) "Crystal input (XTALin), I2C SCL,ISSP-SCLK", 14 VSS (power) "Ground connection", 15 P1[0] (io) "Crystal output (XTALout), I2C SDA,ISSP-SDATA", 16 P1[2] (io), 17 P1[4] (io) "Optional external clock input (EXTCLK)", 18 P1[6] (io), 19 XRES (in) "Active high external reset with internal pull-down", 20 P2[0] (io), 21 P2[2] (io), 22 P2[4] (io), 23 P2[6] (io) "Direct input to analog block", 24 P0[0] (io) "Analog column mux input", 25 P0[2] (io) "Analog column mux input", 26 P0[4] (io) "Analog column mux input", 27 P0[6] (io) "Analog column mux input", 28 VDD (power) "Supply voltage"

## CY8C22345-24SXI
designator U?
PSoC Programmable System-on-Chip, 16 KB Flash, 24 GPIOs, 3.00 to 5.25 V, 28-Pin SOIC (S28.3); Manufacturer: Cypress; PartNumber: CY8C22345-24SXI; CPU Core: M8C; No. of CapSense IO: 24; Flash (KB): 16; Max. Operating Voltage (V): 5.25; Min. Operating Voltage (V): 3; No. of Programmable Digital Blocks: 8; Rating: I; SRAM (KB): 1; DatasheetVersion: Rev. *R; PackageVersion: *E; PackageReference: SX28; PackageDescription: 28-Pin SOIC, Body 17.91 x 7.51 mm, Pitch 1.27 mm; Supplier 1: Digi-Key; Supplier Part Number 1: CY8C22345-24SXI-ND; Supplier 2: Newark; Supplier Part Number 2: 46P7693; Supplier 3: Mouser; Supplier Part Number 3: 727-CY8C22345-24SXI; Max. Operating Temp. (°C): 85; Min. Operating Temp. (°C): -40; No. of GPIOs: 24; RoHS: Pb-Free; Mounting Technology: Surface Mount; Code_JEDEC: MO-119; ComponentLink1Description: Manufacturer URL; ComponentLink1URL: http://www.cypress.com/; ComponentLink2Description: Datasheet; ComponentLink2URL: http://www.cypress.com/?docID=45266; ComponentLink3Description: Package Specification; ComponentLink3URL: http://www.cypress.com/?docID=39168; ComponentLink4Description: Product URL; ComponentLink4URL: http://www.cypress.com/?rID=34248
footprint CYP-SX28_N (SOIC, 28-Leads, Body 17.9x7.5mm, Pitch 1.27mm, IPC Medium Density)
footprint CYP-SX28_L (SOIC, 28-Leads, Body 17.9x7.5mm, Pitch 1.27mm, IPC High Density)
footprint CYP-SX28_M (SOIC, 28-Leads, Body 17.9x7.5mm, Pitch 1.27mm, IPC Low Density)
pins: 1 P0[7] (io) "Integration Capacitor for MR", 2 P0[5] (io) "Integration Capacitor for ML", 3 P0[3] (io), 4 P0[1] (io), 5 P2[7] (io) "To Compare Column 0", 6 P2[5] (io) "Optional ADC External Vref", 7 P2[3] (io), 8 P2[1] (io), 9 VSS (power) "Ground Connection", 10 P1[7] (io) "I2C serial clock (SCL)", 11 P1[5] (io) "I2C serial data (SDA)", 12 P1[3] (io), 13 P1[1] (io) "I2C serial clock (SCL), ISSP-SCLK", 14 VSS (power) "Ground Connection", 15 P1[0] (io) "I2C serial Clock (SCL), ISSP-SDATA", 16 P1[2] (io), 17 P1[4] (io) "Optional external clock input (EXT-CLK)", 18 P1[6] (io), 19 XRES (in) "Active High Pin Reset with Internal Pull Down", 20 P2[0] (io), 21 P2[2] (io), 22 P2[4] (io), 23 P2[6] (io) "To Compare Column 1", 24 P0[0] (io), 25 P0[2] (io), 26 P0[4] (io), 27 P0[6] (io), 28 VDD (power) "To Compare Column 1"

## CY8C22345-24SXIT
designator U?
PSoC Programmable System-on-Chip, 16 KB Flash, 24 GPIOs, 3.00 to 5.25 V, 28-Pin SOIC (S28.3), Tape and Reel; Manufacturer: Cypress; PartNumber: CY8C22345-24SXIT; CPU Core: M8C; No. of CapSense IO: 24; Flash (KB): 16; Max. Operating Voltage (V): 5.25; Min. Operating Voltage (V): 3; No. of Programmable Digital Blocks: 8; Rating: I; SRAM (KB): 1; DatasheetVersion: Rev. *R; PackageVersion: *E; PackageReference: SX28; PackageDescription: 28-Pin SOIC, Body 17.91 x 7.51 mm, Pitch 1.27 mm; Supplier 1: Digi-Key; Supplier Part Number 1: CY8C22345-24SXIT-ND; Supplier 2: Mouser; Supplier Part Number 2: 727-CY8C22345-24SXIT; Max. Operating Temp. (°C): 85; Min. Operating Temp. (°C): -40; No. of GPIOs: 24; Packing: Tape and Reel; RoHS: Pb-Free; Mounting Technology: Surface Mount; Code_JEDEC: MO-119; ComponentLink1Description: Manufacturer URL; ComponentLink1URL: http://www.cypress.com/; ComponentLink2Description: Datasheet; ComponentLink2URL: http://www.cypress.com/?docID=45266; ComponentLink3Description: Package Specification; ComponentLink3URL: http://www.cypress.com/?docID=39168; ComponentLink4Description: Product URL; ComponentLink4URL: http://www.cypress.com/?rID=34248
footprint CYP-SX28_N (SOIC, 28-Leads, Body 17.9x7.5mm, Pitch 1.27mm, IPC Medium Density)
footprint CYP-SX28_L (SOIC, 28-Leads, Body 17.9x7.5mm, Pitch 1.27mm, IPC High Density)
footprint CYP-SX28_M (SOIC, 28-Leads, Body 17.9x7.5mm, Pitch 1.27mm, IPC Low Density)
pins: 1 P0[7] (io) "Integration Capacitor for MR", 2 P0[5] (io) "Integration Capacitor for ML", 3 P0[3] (io), 4 P0[1] (io), 5 P2[7] (io) "To Compare Column 0", 6 P2[5] (io) "Optional ADC External Vref", 7 P2[3] (io), 8 P2[1] (io), 9 VSS (power) "Ground Connection", 10 P1[7] (io) "I2C serial clock (SCL)", 11 P1[5] (io) "I2C serial data (SDA)", 12 P1[3] (io), 13 P1[1] (io) "I2C serial clock (SCL), ISSP-SCLK", 14 VSS (power) "Ground Connection", 15 P1[0] (io) "I2C serial Clock (SCL), ISSP-SDATA", 16 P1[2] (io), 17 P1[4] (io) "Optional external clock input (EXT-CLK)", 18 P1[6] (io), 19 XRES (in) "Active High Pin Reset with Internal Pull Down", 20 P2[0] (io), 21 P2[2] (io), 22 P2[4] (io), 23 P2[6] (io) "To Compare Column 1", 24 P0[0] (io), 25 P0[2] (io), 26 P0[4] (io), 27 P0[6] (io), 28 VDD (power) "To Compare Column 1"

## CY8C22545-24AXI
designator U?
PSoC Programmable System-on-Chip, 16 KB Flash, 38 GPIOs, 3.00 to 5.25 V, 44-Pin TQFP (A44S); Manufacturer: Cypress; PartNumber: CY8C22545-24AXI; CPU Core: M8C; No. of CapSense IO: 38; Flash (KB): 16; Max. Operating Voltage (V): 5.25; Min. Operating Voltage (V): 3; No. of Programmable Digital Blocks: 8; Rating: I; SRAM (KB): 1; DatasheetVersion: Rev. *R; PackageVersion: *D; PackageReference: AX44; PackageDescription: 44-Pin Thin Plastic Quad Flatpack, Body 10 x 10 mm, Pitch 0.8 mm; Supplier 1: Digi-Key; Supplier Part Number 1: CY8C22545-24AXI-ND; Supplier 2: Newark; Supplier Part Number 2: 46P7694; Supplier 3: Mouser; Supplier Part Number 3: 727-CY8C22545-24AXI; Max. Operating Temp. (°C): 85; Min. Operating Temp. (°C): -40; No. of GPIOs: 38; RoHS: Pb-Free; Mounting Technology: Surface Mount; Code_JEDEC: MS-026; ComponentLink1Description: Manufacturer URL; ComponentLink1URL: http://www.cypress.com/; ComponentLink2Description: Datasheet; ComponentLink2URL: http://www.cypress.com/?docID=45266; ComponentLink3Description: Package Specification; ComponentLink3URL: http://www.cypress.com/?docID=20444; ComponentLink4Description: Product URL; ComponentLink4URL: http://www.cypress.com/?rID=34248
footprint CYP-AX44_N (QFP, 44-Leads, Body 10x10mm, Pitch 0.8mm, IPC Medium Density)
footprint CYP-AX44_L (QFP, 44-Leads, Body 10x10mm, Pitch 0.8mm, IPC High Density)
footprint CYP-AX44_M (QFP, 44-Leads, Body 10x10mm, Pitch 0.8mm, IPC Low Density)
pins: 1 P2[5] (io) "Optional ADC External Vref", 2 P2[3] (io), 3 P2[1] (io), 4 VDD (power) "Supply Voltage", 5 P4[5] (io), 6 P4[3] (io), 7 P4[1] (io), 8 VSS (power) "Ground Connection", 9 P3[7] (io), 10 P3[5] (io), 11 P3[3] (io), 12 P3[1] (io), 13 P1[7] (io) "I2C serial clock (SCL)", 14 P1[5] (io) "I2C serial data (SDA)", 15 P1[3] (io), 16 P1[1] (io) "Crystal (XTALin), I2C SCL, TC SCLK", 17 VSS (power) "Ground Connection", 18 P1[0] (io) "Crystal (XTALout), I2C SDA, TC SDATA", 19 P1[2] (io), 20 P1[4] (io) "Optional external clock input (EXTCLK)", 21 P1[6] (io), 22 P3[0] (io), 23 P3[2] (io), 24 P3[4] (io), 25 P3[6] (io), 26 XRES (in) "Active High Pin Reset with Internal Pull Down", 27 P4[0] (io), 28 P4[2] (io), 29 P4[4] (io), 30 VSS (power) "Ground Connection", 31 P2[0] (io), 32 P2[2] (io), 33 P2[4] (io), 34 P2[6] (io) "To Compare Column 1", 35 P0[0] (io), 36 P0[2] (io), 37 P0[4] (io), 38 P0[6] (io), 39 VDD (power) "Supply Voltage", 40 P0[7] (io) "Integration Capacitor for MR", 41 P0[5] (io) "Integration Capacitor for ML", 42 P0[3] (io), 43 P0[1] (io), 44 P2[7] (io) "To Compare Column 0"

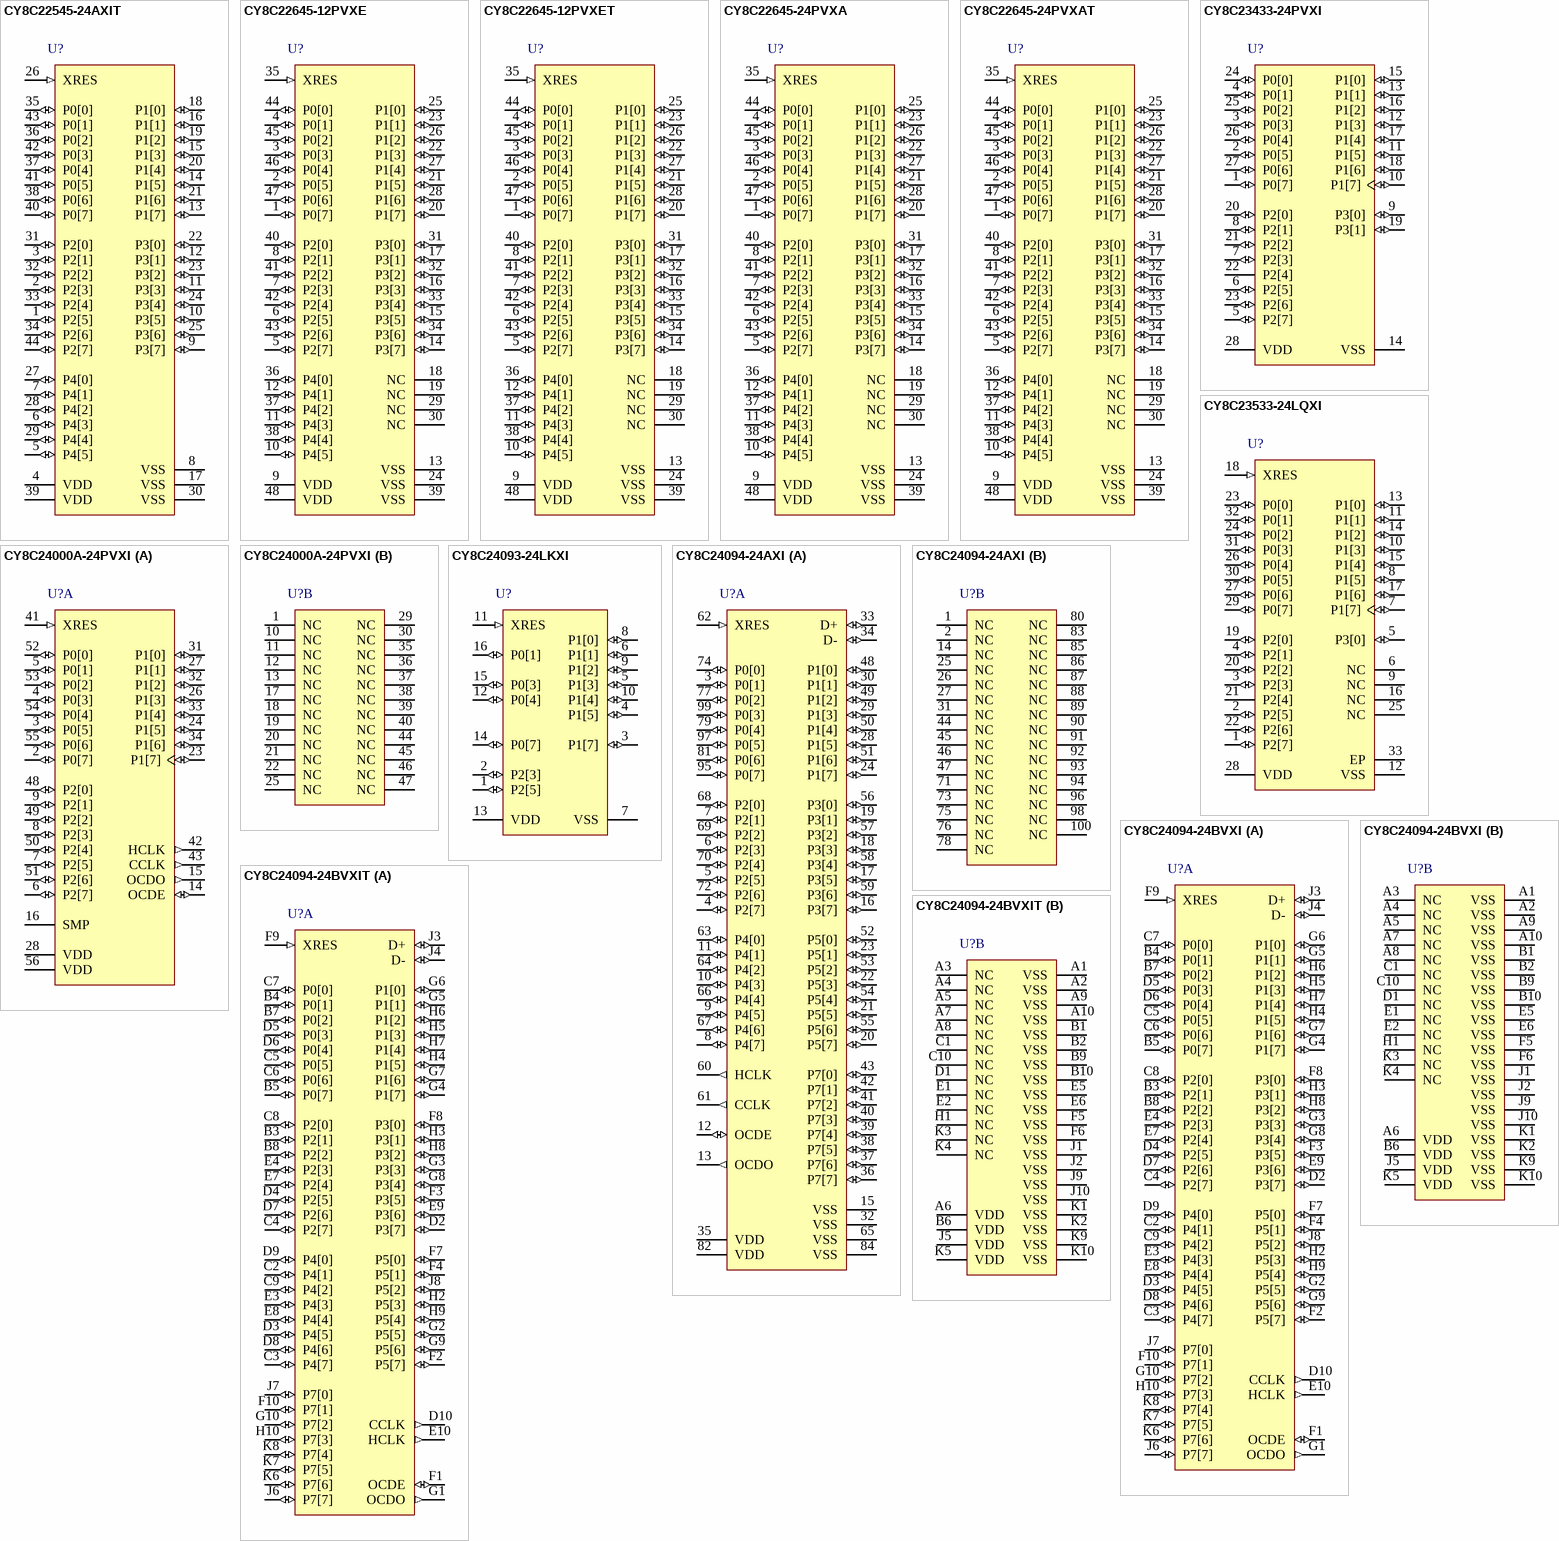
[diagram p4: symbols CY8C22545-24AXIT to CY8C24094-24BVXIT]

## CY8C22545-24AXIT
designator U?
PSoC Programmable System-on-Chip, 16 KB Flash, 38 GPIOs, 3.00 to 5.25 V, 44-Pin TQFP (A44S), Tape and Reel; Manufacturer: Cypress; PartNumber: CY8C22545-24AXIT; CPU Core: M8C; No. of CapSense IO: 38; Flash (KB): 16; Max. Operating Voltage (V): 5.25; Min. Operating Voltage (V): 3; No. of Programmable Digital Blocks: 8; Rating: I; SRAM (KB): 1; DatasheetVersion: Rev. *R; PackageVersion: *D; PackageReference: AX44; PackageDescription: 44-Pin Thin Plastic Quad Flatpack, Body 10 x 10 mm, Pitch 0.8 mm; Supplier 1: Digi-Key; Supplier Part Number 1: CY8C22545-24AXIT-ND; Supplier 2: Newark; Supplier Part Number 2: 50R9566; Supplier 3: Mouser; Supplier Part Number 3: 727-CY8C22545-24AXIT; Max. Operating Temp. (°C): 85; Min. Operating Temp. (°C): -40; No. of GPIOs: 38; Packing: Tape and Reel; RoHS: Pb-Free; Mounting Technology: Surface Mount; Code_JEDEC: MS-026; ComponentLink1Description: Manufacturer URL; ComponentLink1URL: http://www.cypress.com/; ComponentLink2Description: Datasheet; ComponentLink2URL: http://www.cypress.com/?docID=45266; ComponentLink3Description: Package Specification; ComponentLink3URL: http://www.cypress.com/?docID=20444; ComponentLink4Description: Product URL; ComponentLink4URL: http://www.cypress.com/?rID=34248
footprint CYP-AX44_N (QFP, 44-Leads, Body 10x10mm, Pitch 0.8mm, IPC Medium Density)
footprint CYP-AX44_L (QFP, 44-Leads, Body 10x10mm, Pitch 0.8mm, IPC High Density)
footprint CYP-AX44_M (QFP, 44-Leads, Body 10x10mm, Pitch 0.8mm, IPC Low Density)
pins: 1 P2[5] (io) "Optional ADC External Vref", 2 P2[3] (io), 3 P2[1] (io), 4 VDD (power) "Supply Voltage", 5 P4[5] (io), 6 P4[3] (io), 7 P4[1] (io), 8 VSS (power) "Ground Connection", 9 P3[7] (io), 10 P3[5] (io), 11 P3[3] (io), 12 P3[1] (io), 13 P1[7] (io) "I2C serial clock (SCL)", 14 P1[5] (io) "I2C serial data (SDA)", 15 P1[3] (io), 16 P1[1] (io) "Crystal (XTALin), I2C SCL, TC SCLK", 17 VSS (power) "Ground Connection", 18 P1[0] (io) "Crystal (XTALout), I2C SDA, TC SDATA", 19 P1[2] (io), 20 P1[4] (io) "Optional external clock input (EXTCLK)", 21 P1[6] (io), 22 P3[0] (io), 23 P3[2] (io), 24 P3[4] (io), 25 P3[6] (io), 26 XRES (in) "Active High Pin Reset with Internal Pull Down", 27 P4[0] (io), 28 P4[2] (io), 29 P4[4] (io), 30 VSS (power) "Ground Connection", 31 P2[0] (io), 32 P2[2] (io), 33 P2[4] (io), 34 P2[6] (io) "To Compare Column 1", 35 P0[0] (io), 36 P0[2] (io), 37 P0[4] (io), 38 P0[6] (io), 39 VDD (power) "Supply Voltage", 40 P0[7] (io) "Integration Capacitor for MR", 41 P0[5] (io) "Integration Capacitor for ML", 42 P0[3] (io), 43 P0[1] (io), 44 P2[7] (io) "To Compare Column 0"

## CY8C22645-12PVXE
designator U?
Automotive PSoC Programmable System-on-Chip, 16 KB Flash, 39 GPIOs, 4.75 to 5.25 V, 48-Pin SSOP (O483); Manufacturer: Cypress; PartNumber: CY8C22645-12PVXE; CPU Core: M8C; No. of CapSense IO: 36; Flash (KB): 16; Max. Operating Voltage (V): 5.25; Min. Operating Voltage (V): 4.75; No. of GPIOs: 39; No. of Programmable Digital Blocks: 8; Rating: E; SRAM (KB): 1; DatasheetVersion: Rev. *K; PackageVersion: *D; PackageReference: PVX48; PackageDescription: 48-Pin Shrunk Small Outline Package, Body 15.88 x 7.51 mm, Pitch 0.64 mm; Supplier 1: Digi-Key; Supplier Part Number 1: CY8C22645-12PVXE-ND; Supplier 2: Newark; Supplier Part Number 2: 25T7010; Supplier 3: Mouser; Supplier Part Number 3: 727-CY8C22645-12PVXE; Max. Operating Temp. (°C): 125; Min. Operating Temp. (°C): -40; RoHS: Pb-Free; Mounting Technology: Surface Mount; ComponentLink1Description: Manufacturer URL; ComponentLink1URL: http://www.cypress.com/; ComponentLink2Description: Datasheet; ComponentLink2URL: http://www.cypress.com/?docID=40421; ComponentLink3Description: Package Specification; ComponentLink3URL: http://www.cypress.com/?docID=39235; ComponentLink4Description: Product URL; ComponentLink4URL: http://www.cypress.com/?rID=42798
footprint CYP-PVX48_N (SOP, 48-Leads, Body 15.88x7.51mm, Pitch 0.635mm, IPC Medium Density)
footprint CYP-PVX48_L (SOP, 48-Leads, Body 15.88x7.51mm, Pitch 0.635mm, IPC High Density)
footprint CYP-PVX48_M (SOP, 48-Leads, Body 15.88x7.51mm, Pitch 0.635mm, IPC Low Density)
pins: 1 P0[7] (io) "Analog column mux input, CMOD capacitor pin", 2 P0[5] (io) "Analog column mux input, CMOD capacitor pin", 3 P0[3] (io) "Analog column mux input", 4 P0[1] (io) "Analog column mux input", 5 P2[7] (io) "Direct input to analog block", 6 P2[5] (io) "Optional SAR ADC external reference", 7 P2[3] (io), 8 P2[1] (io), 9 VDD (power) "Supply voltage", 10 P4[5] (io), 11 P4[3] (io), 12 P4[1] (io), 13 VSS (power) "Ground connection", 14 P3[7] (io), 15 P3[5] (io), 16 P3[3] (io), 17 P3[1] (io), 18 NC "Not connected", 19 NC "Not connected", 20 P1[7] (io) "I2C serial clock", 21 P1[5] (io) "I2C serial data", 22 P1[3] (io), 23 P1[1] (io) "Crystal input (XTALin), I2C SCL,ISSP-SCLK", 24 VSS (power), 25 P1[0] (io) "Crystal output (XTALout), I2C SDA,ISSP-SDATA", 26 P1[2] (io), 27 P1[4] (io) "Optional external clock input", 28 P1[6] (io), 29 NC "Not connected", 30 NC "Not connected", 31 P3[0] (io), 32 P3[2] (io), 33 P3[4] (io), 34 P3[6] (io), 35 XRES (in) "Active high external reset with internal pull-down", 36 P4[0] (io), 37 P4[2] (io), 38 P4[4] (io), 39 VSS (power) "Ground connection", 40 P2[0] (io), 41 P2[2] (io), 42 P2[4] (io), 43 P2[6] (io) "Direct input to analog block", 44 P0[0] (io) "Analog column mux input", 45 P0[2] (io) "Analog column mux input", 46 P0[4] (io) "Analog column mux input", 47 P0[6] (io) "Analog column mux input", 48 VDD (power) "Supply voltage"